# Altium footprint library WR-MM.PcbLib: 120 footprints (part 1 of 8)
Each footprint in its own frame and in the unit in brackets; x right, y up, seen from the top. Pads: shape width x height; smd on the part's side, far side on the other; paste and mask are expansions set on the pad; w line width, h text height; cw(c..) or ccw(c..) is an arc to the next point about the centre after c.
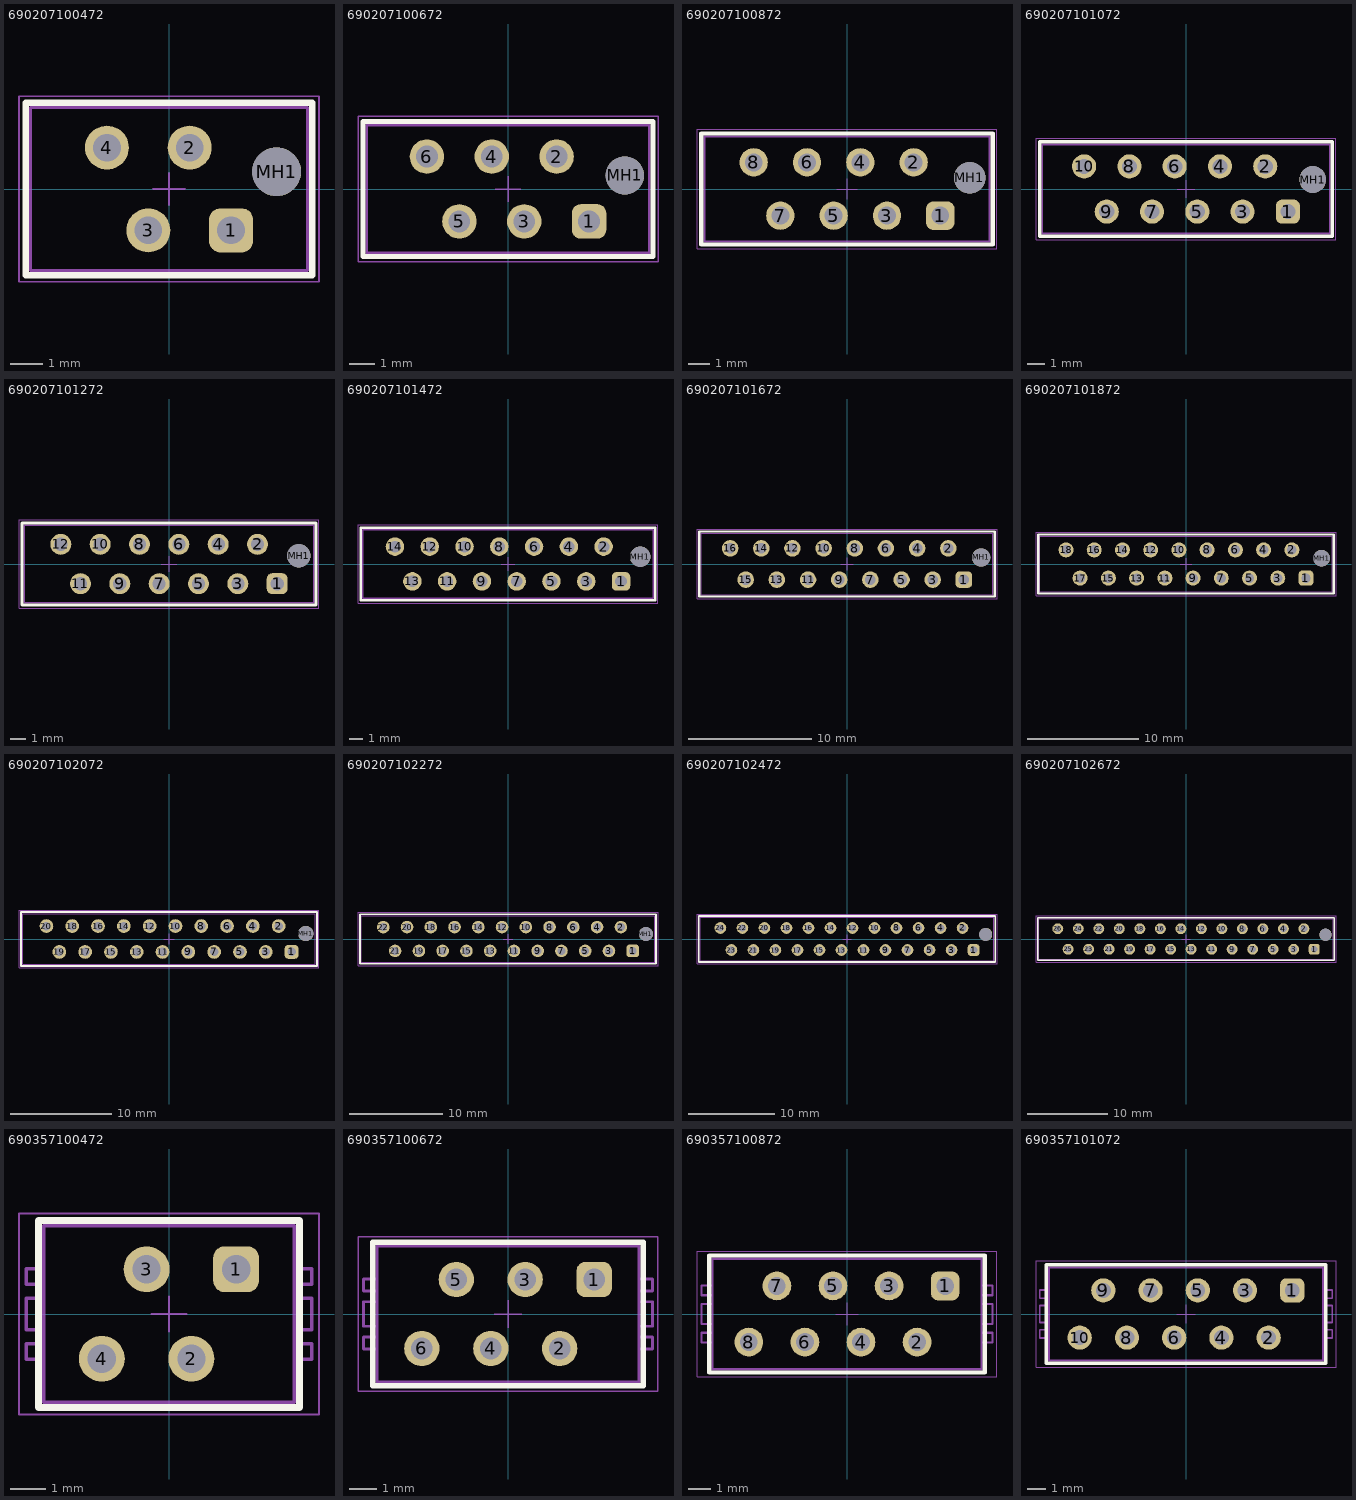
[diagram p0: the footprints below, top view; thin cyan lines are the x and y axes]

## 690207100472 [mm] "Transition Connector, THT, 04p"
height 5.6
pads (5):
  rrect50% 1.35x1.35 hole 0.85: 1(1.905,-1.27)
  round 1.35 hole 0.85: 2(0.635,1.27) 3(-0.635,-1.27) 4(-1.905,1.27)
  round 1.5 hole 1.5 unplated: MH1(3.305,0.53)
Top Overlay:
  lines w0.2: -4.405,-2.65 4.405,-2.65 4.405,2.65 -4.405,2.65 -4.405,-2.65
Top Designator:
  text ".Designator" at -7.498,-0.5 h1.5
Top Component Outline:
  lines w0.1: -4.255,-2.5 -4.255,2.5 4.255,2.5 4.255,-2.5 -4.255,-2.5
Top 3D Body:
  lines w0.1: -4.255,-2.5 4.255,-2.5 4.255,2.5 -4.255,2.5 -4.255,-2.5
Top Courtyard:
  lines w0.05: -0.5,0 0.5,0 ; 0,-0.5 0,0.5 ; -4.605,-2.85 4.605,-2.85 4.605,2.85 -4.605,2.85 -4.605,-2.85
3D body "690207100472.stp": height 5.28, standoff -3.17, extent -4.255,-2.5 4.255,2.5

## 690207100672 [mm] "Transition Connector, THT, 06p"
height 5.6
pads (7):
  rrect50% 1.35x1.35 hole 0.85: 1(3.175,-1.27)
  round 1.35 hole 0.85: 2(1.905,1.27) 3(0.635,-1.27) 4(-0.635,1.27) 5(-1.905,-1.27) 6(-3.175,1.27)
  round 1.5 hole 1.5 unplated: MH1(4.575,0.53)
Top Overlay:
  lines w0.2: -5.675,-2.65 5.675,-2.65 5.675,2.65 -5.675,2.65 -5.675,-2.65
Top Designator:
  text ".Designator" at -7.498,-0.5 h1.5
Top Component Outline:
  lines w0.1: -5.525,-2.5 -5.525,2.5 5.525,2.5 5.525,-2.5 -5.525,-2.5
Top 3D Body:
  lines w0.1: -5.525,-2.5 5.525,-2.5 5.525,2.5 -5.525,2.5 -5.525,-2.5
Top Courtyard:
  lines w0.05: -0.5,0 0.5,0 ; 0,-0.5 0,0.5 ; -5.875,-2.85 5.875,-2.85 5.875,2.85 -5.875,2.85 -5.875,-2.85
3D body "690207100672.stp": height 5.28, standoff -3.17, extent -5.525,-2.5 5.525,2.5

## 690207100872 [mm] "Transition Connector, THT, 08p"
height 5.6
pads (9):
  rrect50% 1.35x1.35 hole 0.85: 1(4.445,-1.27)
  round 1.35 hole 0.85: 2(3.175,1.27) 3(1.905,-1.27) 4(0.635,1.27) 5(-0.635,-1.27) 6(-1.905,1.27) 7(-3.175,-1.27) 8(-4.445,1.27)
  round 1.5 hole 1.5 unplated: MH1(5.845,0.53)
Top Overlay:
  lines w0.2: -6.945,-2.65 6.945,-2.65 6.945,2.65 -6.945,2.65 -6.945,-2.65
Top Designator:
  text ".Designator" at -7.498,-0.5 h1.5
Top Component Outline:
  lines w0.1: -6.795,-2.5 -6.795,2.5 6.795,2.5 6.795,-2.5 -6.795,-2.5
Top 3D Body:
  lines w0.1: -6.795,-2.5 6.795,-2.5 6.795,2.5 -6.795,2.5 -6.795,-2.5
Top Courtyard:
  lines w0.05: -0.5,0 0.5,0 ; 0,-0.5 0,0.5 ; -7.145,-2.85 7.145,-2.85 7.145,2.85 -7.145,2.85 -7.145,-2.85
3D body "690207100872.stp": height 5.28, standoff -3.17, extent -6.795,-2.5 6.795,2.5

## 690207101072 [mm] "Transition Connector, THT, 10p"
height 5.6
pads (11):
  rrect50% 1.35x1.35 hole 0.85: 1(5.715,-1.27)
  round 1.35 hole 0.85: 2(4.445,1.27) 3(3.175,-1.27) 4(1.905,1.27) 5(0.635,-1.27) 6(-0.635,1.27) 7(-1.905,-1.27) 8(-3.175,1.27) 9(-4.445,-1.27) 10(-5.715,1.27)
  round 1.5 hole 1.5 unplated: MH1(7.115,0.53)
Top Overlay:
  lines w0.2: -8.215,-2.65 -8.215,2.65 8.215,2.65 8.215,-2.65 -8.215,-2.65
Top Designator:
  text ".Designator" at -7.498,-0.5 h1.5
Top Component Outline:
  lines w0.1: -8.065,-2.5 8.065,-2.5 8.065,2.5 -8.065,2.5 -8.065,-2.5
Top 3D Body:
  lines w0.1: -8.065,-2.5 -8.065,2.5 8.065,2.5 8.065,-2.5 -8.065,-2.5
Top Courtyard:
  lines w0.05: -0.5,0 0.5,0 ; 0,-0.5 0,0.5 ; -8.415,-2.85 -8.415,2.85 8.415,2.85 8.415,-2.85 -8.415,-2.85
3D body "690207101072.stp": height 5.28, standoff -3.17, extent -8.065,-2.5 8.065,2.5

## 690207101272 [mm] "Transition Connector, THT, 12p"
height 5.6
pads (13):
  rrect50% 1.35x1.35 hole 0.85: 1(6.985,-1.27)
  round 1.35 hole 0.85: 2(5.715,1.27) 3(4.445,-1.27) 4(3.175,1.27) 5(1.905,-1.27) 6(0.635,1.27) 7(-0.635,-1.27) 8(-1.905,1.27) 9(-3.175,-1.27) 10(-4.445,1.27) 11(-5.715,-1.27) 12(-6.985,1.27)
  round 1.5 hole 1.5 unplated: MH1(8.385,0.53)
Top Overlay:
  lines w0.2: -9.485,-2.65 9.485,-2.65 9.485,2.65 -9.485,2.65 -9.485,-2.65
Top Designator:
  text ".Designator" at -7.498,-0.5 h1.5
Top Component Outline:
  lines w0.1: -9.335,-2.5 -9.335,2.5 9.335,2.5 9.335,-2.5 -9.335,-2.5
Top 3D Body:
  lines w0.1: -9.335,-2.5 9.335,-2.5 9.335,2.5 -9.335,2.5 -9.335,-2.5
Top Courtyard:
  lines w0.05: -0.5,0 0.5,0 ; 0,-0.5 0,0.5 ; -9.685,-2.85 9.685,-2.85 9.685,2.85 -9.685,2.85 -9.685,-2.85
3D body "690207101272.stp": height 5.28, standoff -3.17, extent -9.335,-2.5 9.335,2.5

## 690207101472 [mm] "Transition Connector, THT, 14p"
height 5.6
pads (15):
  rrect50% 1.35x1.35 hole 0.85: 1(8.255,-1.27)
  round 1.35 hole 0.85: 2(6.985,1.27) 3(5.715,-1.27) 4(4.445,1.27) 5(3.175,-1.27) 6(1.905,1.27) 7(0.635,-1.27) 8(-0.635,1.27) 9(-1.905,-1.27) 10(-3.175,1.27) 11(-4.445,-1.27) 12(-5.715,1.27) 13(-6.985,-1.27) 14(-8.255,1.27)
  round 1.5 hole 1.5 unplated: MH1(9.655,0.53)
Top Overlay:
  lines w0.2: -10.755,-2.65 10.755,-2.65 10.755,2.65 -10.755,2.65 -10.755,-2.65
Top Designator:
  text ".Designator" at -7.498,-0.5 h1.5
Top Component Outline:
  lines w0.1: -10.605,-2.5 -10.605,2.5 10.605,2.5 10.605,-2.5 -10.605,-2.5
Top 3D Body:
  lines w0.1: -10.605,-2.5 10.605,-2.5 10.605,2.5 -10.605,2.5 -10.605,-2.5
Top Courtyard:
  lines w0.05: -0.5,0 0.5,0 ; 0,-0.5 0,0.5 ; -10.955,-2.85 10.955,-2.85 10.955,2.85 -10.955,2.85 -10.955,-2.85
3D body "690207101472.stp": height 5.28, standoff -3.17, extent -10.605,-2.5 10.605,2.5

## 690207101672 [mm] "Transition Connector, THT, 16p"
height 5.6
pads (17):
  rrect50% 1.35x1.35 hole 0.85: 1(9.525,-1.27)
  round 1.35 hole 0.85: 2(8.255,1.27) 3(6.985,-1.27) 4(5.715,1.27) 5(4.445,-1.27) 6(3.175,1.27) 7(1.905,-1.27) 8(0.635,1.27) 9(-0.635,-1.27) 10(-1.905,1.27) 11(-3.175,-1.27) 12(-4.445,1.27) 13(-5.715,-1.27) 14(-6.985,1.27) 15(-8.255,-1.27) 16(-9.525,1.27)
  round 1.5 hole 1.5 unplated: MH1(10.925,0.53)
Top Overlay:
  lines w0.2: -12.025,-2.65 12.025,-2.65 12.025,2.65 -12.025,2.65 -12.025,-2.65
Top Designator:
  text ".Designator" at -7.498,-0.5 h1.5
Top Component Outline:
  lines w0.1: -11.875,-2.5 -11.875,2.5 11.875,2.5 11.875,-2.5 -11.875,-2.5
Top 3D Body:
  lines w0.1: -11.875,-2.5 11.875,-2.5 11.875,2.5 -11.875,2.5 -11.875,-2.5
Top Courtyard:
  lines w0.05: -0.5,0 0.5,0 ; 0,-0.5 0,0.5 ; -12.225,-2.85 12.225,-2.85 12.225,2.85 -12.225,2.85 -12.225,-2.85
3D body "690207101672.stp": height 5.28, standoff -3.17, extent -11.875,-2.5 11.875,2.5

## 690207101872 [mm] "Transition Connector, THT, 18p"
height 5.6
pads (19):
  rrect50% 1.35x1.35 hole 0.85: 1(10.795,-1.27)
  round 1.35 hole 0.85: 2(9.525,1.27) 3(8.255,-1.27) 4(6.985,1.27) 5(5.715,-1.27) 6(4.445,1.27) 7(3.175,-1.27) 8(1.905,1.27) 9(0.635,-1.27) 10(-0.635,1.27) 11(-1.905,-1.27) 12(-3.175,1.27) 13(-4.445,-1.27) 14(-5.715,1.27) 15(-6.985,-1.27) 16(-8.255,1.27) 17(-9.525,-1.27) 18(-10.795,1.27)
  round 1.5 hole 1.5 unplated: MH1(12.195,0.53)
Top Overlay:
  lines w0.2: -13.295,-2.65 -13.295,2.65 13.295,2.65 13.295,-2.65 -13.295,-2.65
Top Designator:
  text ".Designator" at -7.498,-0.5 h1.5
Top Component Outline:
  lines w0.1: -13.145,-2.5 13.145,-2.5 13.145,2.5 -13.145,2.5 -13.145,-2.5
Top 3D Body:
  lines w0.1: -13.145,-2.5 -13.145,2.5 13.145,2.5 13.145,-2.5 -13.145,-2.5
Top Courtyard:
  lines w0.05: -0.5,0 0.5,0 ; 0,-0.5 0,0.5 ; -13.495,-2.85 -13.495,2.85 13.495,2.85 13.495,-2.85 -13.495,-2.85
3D body "690207101872.stp": height 5.28, standoff -3.17, extent -13.145,-2.5 13.145,2.5

## 690207102072 [mm] "Transition Connector, THT, 20p"
height 5.6
pads (21):
  rrect50% 1.35x1.35 hole 0.85: 1(12.065,-1.27)
  round 1.35 hole 0.85: 2(10.795,1.27) 3(9.525,-1.27) 4(8.255,1.27) 5(6.985,-1.27) 6(5.715,1.27) 7(4.445,-1.27) 8(3.175,1.27) 9(1.905,-1.27) 10(0.635,1.27) 11(-0.635,-1.27) 12(-1.905,1.27) 13(-3.175,-1.27) 14(-4.445,1.27) 15(-5.715,-1.27) 16(-6.985,1.27) 17(-8.255,-1.27) 18(-9.525,1.27) 19(-10.795,-1.27) 20(-12.065,1.27)
  round 1.5 hole 1.5 unplated: MH1(13.465,0.53)
Top Overlay:
  lines w0.2: -14.565,-2.65 -14.565,2.65 14.565,2.65 14.565,-2.65 -14.565,-2.65
Top Designator:
  text ".Designator" at -7.498,-0.5 h1.5
Top Component Outline:
  lines w0.1: -14.415,-2.5 14.415,-2.5 14.415,2.5 -14.415,2.5 -14.415,-2.5
Top 3D Body:
  lines w0.1: -14.415,-2.5 -14.415,2.5 14.415,2.5 14.415,-2.5 -14.415,-2.5
Top Courtyard:
  lines w0.05: -0.5,0 0.5,0 ; 0,-0.5 0,0.5 ; -14.765,-2.85 -14.765,2.85 14.765,2.85 14.765,-2.85 -14.765,-2.85
3D body "690207102072.stp": height 5.28, standoff -3.17, extent -14.415,-2.5 14.415,2.5

## 690207102272 [mm] "Transition Connector, THT, 22p"
height 5.6
pads (23):
  rrect50% 1.35x1.35 hole 0.85: 1(13.335,-1.27)
  round 1.35 hole 0.85: 2(12.065,1.27) 3(10.795,-1.27) 4(9.525,1.27) 5(8.255,-1.27) 6(6.985,1.27) 7(5.715,-1.27) 8(4.445,1.27) 9(3.175,-1.27) 10(1.905,1.27) 11(0.635,-1.27) 12(-0.635,1.27) 13(-1.905,-1.27) 14(-3.175,1.27) 15(-4.445,-1.27) 16(-5.715,1.27) 17(-6.985,-1.27) 18(-8.255,1.27) 19(-9.525,-1.27) 20(-10.795,1.27) 21(-12.065,-1.27) 22(-13.335,1.27)
  round 1.5 hole 1.5 unplated: MH1(14.735,0.53)
Top Overlay:
  lines w0.2: -15.835,-2.65 15.835,-2.65 15.835,2.65 -15.835,2.65 -15.835,-2.65
Top Designator:
  text ".Designator" at -7.498,-0.5 h1.5
Top Component Outline:
  lines w0.1: -15.685,-2.5 -15.685,2.5 15.685,2.5 15.685,-2.5 -15.685,-2.5
Top 3D Body:
  lines w0.1: -15.685,-2.5 15.685,-2.5 15.685,2.5 -15.685,2.5 -15.685,-2.5
Top Courtyard:
  lines w0.05: -0.5,0 0.5,0 ; 0,-0.5 0,0.5 ; -16.035,-2.85 16.035,-2.85 16.035,2.85 -16.035,2.85 -16.035,-2.85
3D body "690207102272.stp": height 5.28, standoff -3.17, extent -15.685,-2.5 15.685,2.5

## 690207102472 [mm] "Transition Connector, THT, 24p"
height 5.6
pads (25):
  rrect50% 1.35x1.35 hole 0.85: 1(14.605,-1.27)
  round 1.35 hole 0.85: 2(13.335,1.27) 3(12.065,-1.27) 4(10.795,1.27) 5(9.525,-1.27) 6(8.255,1.27) 7(6.985,-1.27) 8(5.715,1.27) 9(4.445,-1.27) 10(3.175,1.27) 11(1.905,-1.27) 12(0.635,1.27) 13(-0.635,-1.27) 14(-1.905,1.27) 15(-3.175,-1.27) 16(-4.445,1.27) 17(-5.715,-1.27) 18(-6.985,1.27) 19(-8.255,-1.27) 20(-9.525,1.27) 21(-10.795,-1.27) 22(-12.065,1.27) 23(-13.335,-1.27) 24(-14.605,1.27)
  round 1.5 hole 1.5 unplated: MH1(16.005,0.53)
Top Overlay:
  lines w0.2: -17.105,-2.65 17.105,-2.65 17.105,2.65 -17.105,2.65 -17.105,-2.65
Top Designator:
  text ".Designator" at -7.498,-0.5 h1.5
Top Component Outline:
  lines w0.1: -16.955,-2.5 -16.955,2.5 16.955,2.5 16.955,-2.5 -16.955,-2.5
Top 3D Body:
  lines w0.1: -16.955,-2.5 16.955,-2.5 16.955,2.5 -16.955,2.5 -16.955,-2.5
Top Courtyard:
  lines w0.05: -0.5,0 0.5,0 ; 0,-0.5 0,0.5 ; -17.305,-2.85 17.305,-2.85 17.305,2.85 -17.305,2.85 -17.305,-2.85
3D body "690207102472.stp": height 5.28, standoff -3.17, extent -16.955,-2.5 16.955,2.5

## 690207102672 [mm] "Transition Connector, THT, 26p"
height 5.6
pads (27):
  rrect50% 1.35x1.35 hole 0.85: 1(15.875,-1.27)
  round 1.35 hole 0.85: 2(14.605,1.27) 3(13.335,-1.27) 4(12.065,1.27) 5(10.795,-1.27) 6(9.525,1.27) 7(8.255,-1.27) 8(6.985,1.27) 9(5.715,-1.27) 10(4.445,1.27) 11(3.175,-1.27) 12(1.905,1.27) 13(0.635,-1.27) 14(-0.635,1.27) 15(-1.905,-1.27) 16(-3.175,1.27) 17(-4.445,-1.27) 18(-5.715,1.27) 19(-6.985,-1.27) 20(-8.255,1.27) 21(-9.525,-1.27) 22(-10.795,1.27) 23(-12.065,-1.27) 24(-13.335,1.27) 25(-14.605,-1.27) 26(-15.875,1.27)
  round 1.5 hole 1.5 unplated: MH1(17.275,0.53)
Top Overlay:
  lines w0.2: -18.375,-2.65 -18.375,2.65 18.375,2.65 18.375,-2.65 -18.375,-2.65
Top Designator:
  text ".Designator" at -7.498,-0.5 h1.5
Top Component Outline:
  lines w0.1: -18.225,-2.5 18.225,-2.5 18.225,2.5 -18.225,2.5 -18.225,-2.5
Top 3D Body:
  lines w0.1: -18.225,-2.5 -18.225,2.5 18.225,2.5 18.225,-2.5 -18.225,-2.5
Top Courtyard:
  lines w0.05: -0.5,0 0.5,0 ; 0,-0.5 0,0.5 ; -18.575,-2.85 -18.575,2.85 18.575,2.85 18.575,-2.85 -18.575,-2.85
3D body "690207102672.stp": height 5.28, standoff -3.17, extent -18.225,-2.5 18.225,2.5

## 690357100472 [mm] "MiniModule Connectors, PCB Type, Male, THT, Vertical, 4p"
height 7.3
pads (4):
  rrect50% 1.3x1.3 hole 0.8: 1(1.905,1.27)
  round 1.3 hole 0.8: 2(0.635,-1.27) 3(-0.635,1.27) 4(-1.905,-1.27)
Top Overlay:
  lines w0.2: -3.705,-2.65 3.705,-2.65 3.705,2.65 -3.705,2.65 -3.705,-2.65
Top Designator:
  text ".Designator" at -7.498,-0.5 h1.5
Top Component Outline:
  lines w0.1: -3.555,-1.29 -4.055,-1.29 -4.055,-0.85 -3.555,-0.85 ; -3.555,-0.45 -4.055,-0.45 -4.055,0.45 -3.555,0.45 ; -3.555,0.85 -4.055,0.85 -4.055,1.29 -3.555,1.29 ; 3.555,-1.29 4.055,-1.29 4.055,-0.85 3.555,-0.85 ; 3.555,-0.45 4.055,-0.45 4.055,0.45 3.555,0.45 ; 3.555,0.85 4.055,0.85 4.055,1.29 3.555,1.29 ; -3.555,-2.5 -3.555,2.5 3.555,2.5 3.555,-2.5 -3.555,-2.5
Top 3D Body:
  lines w0.1: -3.555,-1.29 -4.055,-1.29 -4.055,-0.85 -3.555,-0.85 ; -3.555,-0.45 -4.055,-0.45 -4.055,0.45 -3.555,0.45 ; -3.555,0.85 -4.055,0.85 -4.055,1.29 -3.555,1.29 ; 3.555,-1.29 4.055,-1.29 4.055,-0.85 3.555,-0.85 ; 3.555,-0.45 4.055,-0.45 4.055,0.45 3.555,0.45 ; 3.555,0.85 4.055,0.85 4.055,1.29 3.555,1.29 ; -3.555,-2.5 3.555,-2.5 3.555,2.5 -3.555,2.5 -3.555,-2.5
Top Courtyard:
  lines w0.05: -0.5,0 0.5,0 ; 0,-0.5 0,0.5 ; -4.255,-2.85 4.255,-2.85 4.255,2.85 -4.255,2.85 -4.255,-2.85
3D body "690357100472.stp": height 7.05, standoff -3.05, extent -4.055,-2.5 4.055,2.5

## 690357100672 [mm] "MiniModule Connectors, PCB Type, Male, THT, Vertical, 6p"
height 7.3
pads (6):
  rrect50% 1.3x1.3 hole 0.8: 1(3.175,1.27)
  round 1.3 hole 0.8: 2(1.905,-1.27) 3(0.635,1.27) 4(-0.635,-1.27) 5(-1.905,1.27) 6(-3.175,-1.27)
Top Overlay:
  lines w0.2: -4.975,-2.65 4.975,-2.65 4.975,2.65 -4.975,2.65 -4.975,-2.65
Top Designator:
  text ".Designator" at -7.498,-0.5 h1.5
Top Component Outline:
  lines w0.1: -4.825,-1.29 -5.325,-1.29 -5.325,-0.85 -4.825,-0.85 ; -4.825,-0.45 -5.325,-0.45 -5.325,0.45 -4.825,0.45 ; -4.825,0.85 -5.325,0.85 -5.325,1.29 -4.825,1.29 ; 4.825,-1.29 5.325,-1.29 5.325,-0.85 4.825,-0.85 ; 4.825,-0.45 5.325,-0.45 5.325,0.45 4.825,0.45 ; 4.825,0.85 5.325,0.85 5.325,1.29 4.825,1.29 ; -4.825,-2.5 -4.825,2.5 4.825,2.5 4.825,-2.5 -4.825,-2.5
Top 3D Body:
  lines w0.1: -4.825,-1.29 -5.325,-1.29 -5.325,-0.85 -4.825,-0.85 ; -4.825,-0.45 -5.325,-0.45 -5.325,0.45 -4.825,0.45 ; -4.825,0.85 -5.325,0.85 -5.325,1.29 -4.825,1.29 ; 4.825,-1.29 5.325,-1.29 5.325,-0.85 4.825,-0.85 ; 4.825,-0.45 5.325,-0.45 5.325,0.45 4.825,0.45 ; 4.825,0.85 5.325,0.85 5.325,1.29 4.825,1.29 ; -4.825,-2.5 4.825,-2.5 4.825,2.5 -4.825,2.5 -4.825,-2.5
Top Courtyard:
  lines w0.05: -0.5,0 0.5,0 ; 0,-0.5 0,0.5 ; -5.525,-2.85 5.525,-2.85 5.525,2.85 -5.525,2.85 -5.525,-2.85
3D body "690357100672.stp": height 7.05, standoff -3.05, extent -5.325,-2.5 5.325,2.5

## 690357100872 [mm] "MiniModule Connectors, PCB Type, Male, THT, Vertical, 8p"
height 7.3
pads (8):
  rrect50% 1.3x1.3 hole 0.8: 1(4.445,1.27)
  round 1.3 hole 0.8: 2(3.175,-1.27) 3(1.905,1.27) 4(0.635,-1.27) 5(-0.635,1.27) 6(-1.905,-1.27) 7(-3.175,1.27) 8(-4.445,-1.27)
Top Overlay:
  lines w0.2: -6.245,-2.65 6.245,-2.65 6.245,2.65 -6.245,2.65 -6.245,-2.65
Top Designator:
  text ".Designator" at -7.498,-0.5 h1.5
Top Component Outline:
  lines w0.1: -6.095,-1.29 -6.595,-1.29 -6.595,-0.85 -6.095,-0.85 ; -6.095,-0.45 -6.595,-0.45 -6.595,0.45 -6.095,0.45 ; -6.095,0.85 -6.595,0.85 -6.595,1.29 -6.095,1.29 ; 6.095,-1.29 6.595,-1.29 6.595,-0.85 6.095,-0.85 ; 6.095,-0.45 6.595,-0.45 6.595,0.45 6.095,0.45 ; 6.095,0.85 6.595,0.85 6.595,1.29 6.095,1.29 ; -6.095,-2.5 -6.095,2.5 6.095,2.5 6.095,-2.5 -6.095,-2.5
Top 3D Body:
  lines w0.1: -6.095,-1.29 -6.595,-1.29 -6.595,-0.85 -6.095,-0.85 ; -6.095,-0.45 -6.595,-0.45 -6.595,0.45 -6.095,0.45 ; -6.095,0.85 -6.595,0.85 -6.595,1.29 -6.095,1.29 ; 6.095,-1.29 6.595,-1.29 6.595,-0.85 6.095,-0.85 ; 6.095,-0.45 6.595,-0.45 6.595,0.45 6.095,0.45 ; 6.095,0.85 6.595,0.85 6.595,1.29 6.095,1.29 ; -6.095,-2.5 6.095,-2.5 6.095,2.5 -6.095,2.5 -6.095,-2.5
Top Courtyard:
  lines w0.05: -0.5,0 0.5,0 ; 0,-0.5 0,0.5 ; -6.795,-2.85 6.795,-2.85 6.795,2.85 -6.795,2.85 -6.795,-2.85
3D body "690357100872.stp": height 7.05, standoff -3.05, extent -6.595,-2.5 6.595,2.5

## 690357101072 [mm] "MiniModule Connectors, PCB Type, Male, THT, Vertical, 10p"
height 7.3
pads (10):
  rrect50% 1.3x1.3 hole 0.8: 1(5.715,1.27)
  round 1.3 hole 0.8: 2(4.445,-1.27) 3(3.175,1.27) 4(1.905,-1.27) 5(0.635,1.27) 6(-0.635,-1.27) 7(-1.905,1.27) 8(-3.175,-1.27) 9(-4.445,1.27) 10(-5.715,-1.27)
Top Overlay:
  lines w0.2: -7.515,-2.65 -7.515,2.65 7.515,2.65 7.515,-2.65 -7.515,-2.65
Top Designator:
  text ".Designator" at -7.498,-0.5 h1.5
Top Component Outline:
  lines w0.1: -7.365,-1.29 -7.865,-1.29 -7.865,-0.85 -7.365,-0.85 ; -7.365,-0.45 -7.865,-0.45 -7.865,0.45 -7.365,0.45 ; -7.365,0.85 -7.865,0.85 -7.865,1.29 -7.365,1.29 ; 7.365,-1.29 7.865,-1.29 7.865,-0.85 7.365,-0.85 ; 7.365,-0.45 7.865,-0.45 7.865,0.45 7.365,0.45 ; 7.365,0.85 7.865,0.85 7.865,1.29 7.365,1.29 ; -7.365,-2.5 7.365,-2.5 7.365,2.5 -7.365,2.5 -7.365,-2.5
Top 3D Body:
  lines w0.1: -7.365,-1.29 -7.865,-1.29 -7.865,-0.85 -7.365,-0.85 ; -7.365,-0.45 -7.865,-0.45 -7.865,0.45 -7.365,0.45 ; -7.365,0.85 -7.865,0.85 -7.865,1.29 -7.365,1.29 ; 7.365,-1.29 7.865,-1.29 7.865,-0.85 7.365,-0.85 ; 7.365,-0.45 7.865,-0.45 7.865,0.45 7.365,0.45 ; 7.365,0.85 7.865,0.85 7.865,1.29 7.365,1.29 ; -7.365,-2.5 -7.365,2.5 7.365,2.5 7.365,-2.5 -7.365,-2.5
Top Courtyard:
  lines w0.05: -0.5,0 0.5,0 ; 0,-0.5 0,0.5 ; -8.065,-2.85 -8.065,2.85 8.065,2.85 8.065,-2.85 -8.065,-2.85
3D body "690357101072.stp": height 7.05, standoff -3.05, extent -7.865,-2.5 7.865,2.5